# Altium schematic symbol library TC8418.SchLib: 1 symbol
Pins are listed as number, name and electrical type; pins without a type are passive.

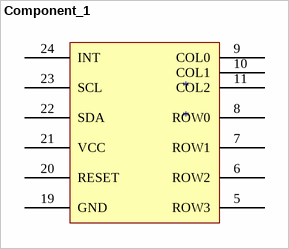
[diagram p0: symbol Component_1]

## Component_1
designator *
pins: 5 ROW3, 6 ROW2, 7 ROW1, 8 ROW0, 9 COL0, 10 COL1, 11 COL2, 19 GND, 20 RESET, 21 VCC, 22 SDA, 23 SCL, 24 INT